# Altium schematic symbol library H-bridge.SchLib: 3 symbols
Pins are listed as number, name and electrical type; pins without a type are passive.

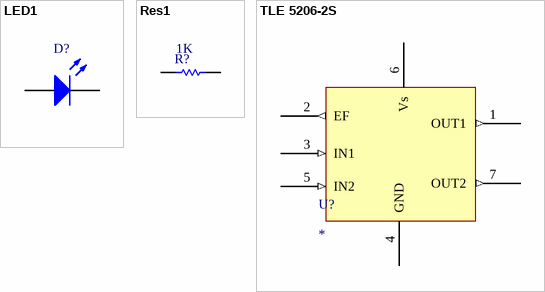
[diagram p0: symbols LED1 to TLE 5206-2S]

## LED1
designator D?
Typical RED GaAs LED; Published: 8-Jun-2000; LatestRevisionDate: 08-Jul-2005; LatestRevisionNote: Mech Layer 1 removed.; PackageReference: LED-1; Publisher: Altium Limited; PackageDescription: LED; 2 Leads
footprint LED-1 (LED; 2 Leads)
simulation model LED1 (Diode)
pins: 1 A, 2 K

## Res1
designator R?  value 1K
Resistor; Published: 8-Jun-2000; LatestRevisionDate: 17-Jul-2002; LatestRevisionNote: Re-released for DXP Platform.; PackageReference: AXIAL-0.3; Publisher: Altium Limited; PackageDescription: Axial Device, Thru-Hole; 2 Leads; 0.3 in Pin Spacing
footprint AXIAL-0.3 (Axial Device, Thru-Hole; 2 Leads; 0.3 in Pin Spacing)
simulation model RESISTOR (Resistor)
signal-integrity model Res
pins: 1, 2

## TLE 5206-2S
designator U?
Infineon TLE 5206-2S Hbridge
footprint TLE-5206-2S IC (H-bridge: Plastic Transistor Single Outline Package)
footprint TLE 5206-2 (H-bridge bent legs)
pins: 1 OUT1 (out), 2 EF (out) "ErrorFlag Output", 3 IN1 (in) "Input Logic 1", 4 GND (power) "Supply Voltage", 5 IN2 (in) "Input Logic 2", 6 Vs (power) "Supply Voltage", 7 OUT2 (out)